# EAGLE library part IV18 (library iStivi - Tubes)
VFD Display 8-character 7 segment
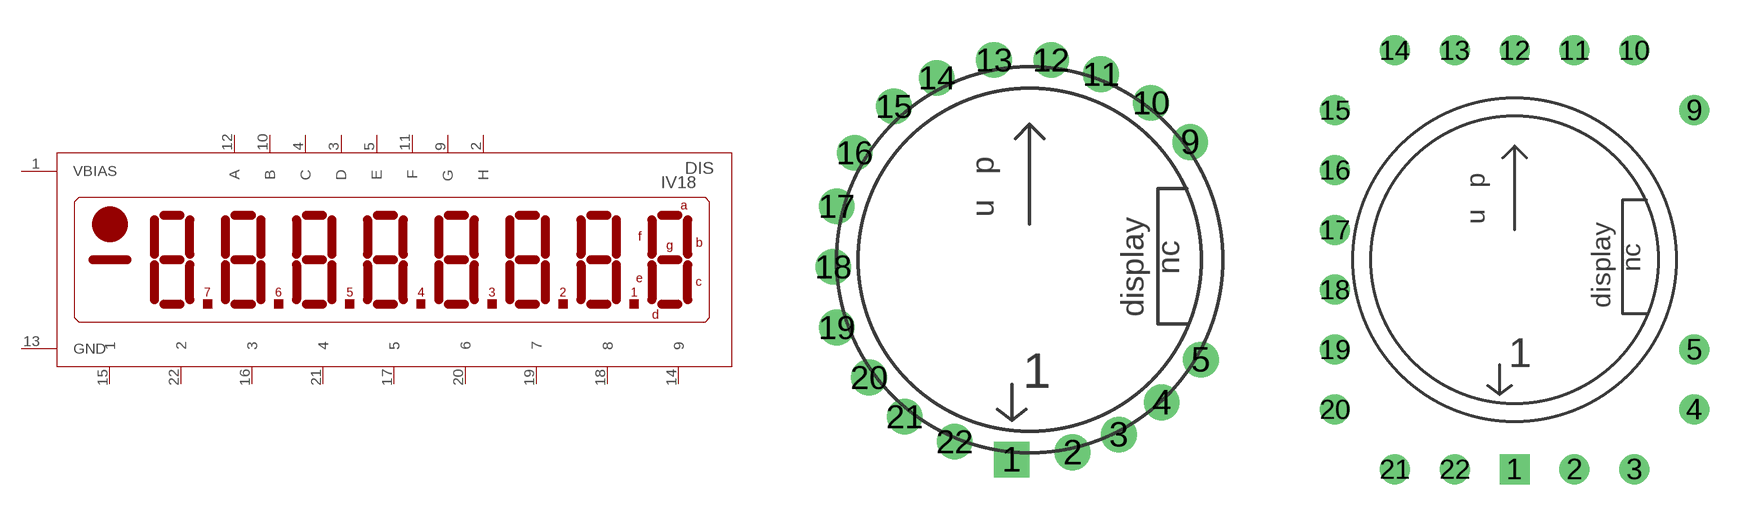
[diagram p3: symbol with the pads of IV-18; footprints IV-18, IV-18_SQUARE]

Designator prefix DIS

## IV18  [IV-18]
1  VBIAS  sup
2  H  pas
3  D  pas
4  C  pas
5  E  pas
9  G  pas
10  B  pas
11  F  pas
12  A  pas
13  GND  sup
14  9  pas
15  1  pas
16  3  pas
17  5  pas
18  8  pas
19  7  pas
20  6  pas
21  4  pas
22  2  pas

## IV18-SQUARE  [IV-18_SQUARE]
Pads as for IV-18

## IV18-LONGPAD  [IV-19_SQUARE_LONG]
Pads as for IV-18

## IV18-SPREAD  [IV-18_SQUARE_SPREAD]
Pads as for IV-18

## Footprint IV-18 (pad centres in mm)
IV-18
drill 0.6 pad 1.27 square: 1 -0.635,-7.112
drill 0.6 pad 1.27: 2 1.524,-6.858; 3 3.175,-6.223; 4 4.699,-5.08; 5 6.096,-3.556; 9 5.715,4.191; 10 4.318,5.588; 11 2.54,6.604; 12 0.762,7.112; 13 -1.27,7.112; 14 -3.302,6.477; 15 -4.826,5.461; 16 -6.223,3.81; 17 -6.858,1.905; 18 -6.985,-0.254; 19 -6.858,-2.413; 20 -5.715,-4.191; 21 -4.445,-5.588; 22 -2.667,-6.477

## Footprint IV-18_SQUARE (pad centres in mm)
IV-18 Square pins 0.1in header
drill 0.6 pad 1.27 square: 1 0,-8.89
drill 0.6 pad 1.27: 2 2.54,-8.89; 3 5.08,-8.89; 4 7.62,-6.35; 5 7.62,-3.81; 9 7.62,6.35; 10 5.08,8.89; 11 2.54,8.89; 12 0,8.89; 13 -2.54,8.89; 14 -5.08,8.89; 15 -7.62,6.35; 16 -7.62,3.81; 17 -7.62,1.27; 18 -7.62,-1.27; 19 -7.62,-3.81; 20 -7.62,-6.35; 21 -5.08,-8.89; 22 -2.54,-8.89

## Footprint IV-19_SQUARE_LONG (pad centres in mm)
IV-18 Square grid long pads 0.1in header
drill 0.6 pad 1.27 offset: 1 0,-8.89; 2 2.54,-8.89; 3 5.08,-8.89; 4 7.62,-6.35; 5 7.62,-3.81; 9 7.62,6.35; 10 5.08,8.89; 11 2.54,8.89; 12 0,8.89; 13 -2.54,8.89; 14 -5.08,8.89; 15 -7.62,6.35; 16 -7.62,3.81; 17 -7.62,1.27; 18 -7.62,-1.27; 19 -7.62,-3.81; 20 -7.62,-6.35; 21 -5.08,-8.89; 22 -2.54,-8.89

## Footprint IV-18_SQUARE_SPREAD (pad centres in mm)
IV-18 pins spread right out to make it easy to sent traces around for rough protoype board
drill 0.6 pad 1.676 square: 1 -0.635,-11.43
drill 0.6 pad 1.676: 2 3.175,-11.43; 3 6.985,-11.43; 4 10.795,-8.89; 5 10.795,-5.08; 9 10.795,10.16; 10 6.985,12.065; 11 3.175,12.065; 12 -0.635,12.065; 13 -4.445,12.065; 14 -8.255,12.065; 15 -11.43,10.16; 16 -11.43,6.35; 17 -11.43,2.54; 18 -11.43,-1.27; 19 -11.43,-5.08; 20 -11.43,-8.89; 21 -8.255,-11.43; 22 -4.445,-11.43